# EAGLE library part MSP430F5224IRGZ (library Nick'sEagle)
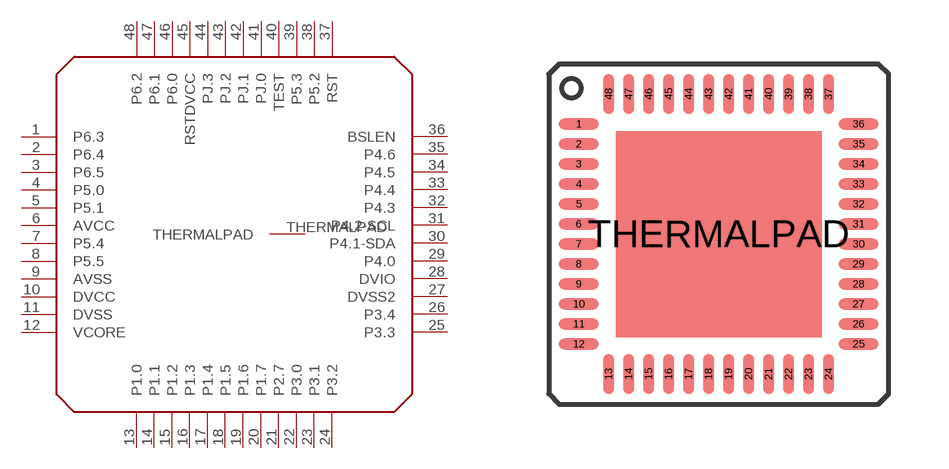
[diagram p6: symbol with the pads of RGZN48; footprint RGZN48]

Designator prefix -

## MSP430F5224IRGZ  [RGZN48]
1  P6.3
2  P6.4
3  P6.5
4  P5.0
5  P5.1
6  AVCC
7  P5.4
8  P5.5
9  AVSS
10  DVCC
11  DVSS
12  VCORE
13  P1.0
14  P1.1
15  P1.2
16  P1.3
17  P1.4
18  P1.5
19  P1.6
20  P1.7
21  P2.7
22  P3.0
23  P3.1
24  P3.2
25  P3.3
26  P3.4
27  DVSS2
28  DVIO
29  P4.0
30  P4.1-SDA
31  P4.2-SCL
32  P4.3
33  P4.4
34  P4.5
35  P4.6
36  BSLEN
37  RST
38  P5.2
39  P5.3
40  TEST
41  PJ.0
42  PJ.1
43  PJ.2
44  PJ.3
45  RSTDVCC
46  P6.0
47  P6.1
48  P6.2
THERMALPAD  THERMALPAD

## Footprint RGZN48 (pad centres in mm)
smd 1 x 0.28: 1 -3.5,2.75; 2 -3.5,2.25; 3 -3.5,1.75; 4 -3.5,1.25; 5 -3.5,0.75; 6 -3.5,0.25; 7 -3.5,-0.25; 8 -3.5,-0.75; 9 -3.5,-1.25; 10 -3.5,-1.75; 11 -3.5,-2.25; 12 -3.5,-2.75; 25 3.5,-2.75; 26 3.5,-2.25; 27 3.5,-1.75; 28 3.5,-1.25; 29 3.5,-0.75; 30 3.5,-0.25; 31 3.5,0.25; 32 3.5,0.75; 33 3.5,1.25; 34 3.5,1.75; 35 3.5,2.25; 36 3.5,2.75
smd 0.28 x 1: 13 -2.75,-3.5; 14 -2.25,-3.5; 15 -1.75,-3.5; 16 -1.25,-3.5; 17 -0.75,-3.5; 18 -0.25,-3.5; 19 0.25,-3.5; 20 0.75,-3.5; 21 1.25,-3.5; 22 1.75,-3.5; 23 2.25,-3.5; 24 2.75,-3.5; 37 2.75,3.5; 38 2.25,3.5; 39 1.75,3.5; 40 1.25,3.5; 41 0.75,3.5; 42 0.25,3.5; 43 -0.25,3.5; 44 -0.75,3.5; 45 -1.25,3.5; 46 -1.75,3.5; 47 -2.25,3.5; 48 -2.75,3.5
smd 5.15 x 5.15: THERMALPAD 0,0